# Altium footprint library QFN65P500X500X100-21N.PcbLib: 1 footprints
Each footprint in its own frame and in the unit in brackets; x right, y up, seen from the top. Pads: shape width x height; smd on the part's side, far side on the other; paste and mask are expansions set on the pad; w line width, h text height; cw(c..) or ccw(c..) is an arc to the next point about the centre after c.
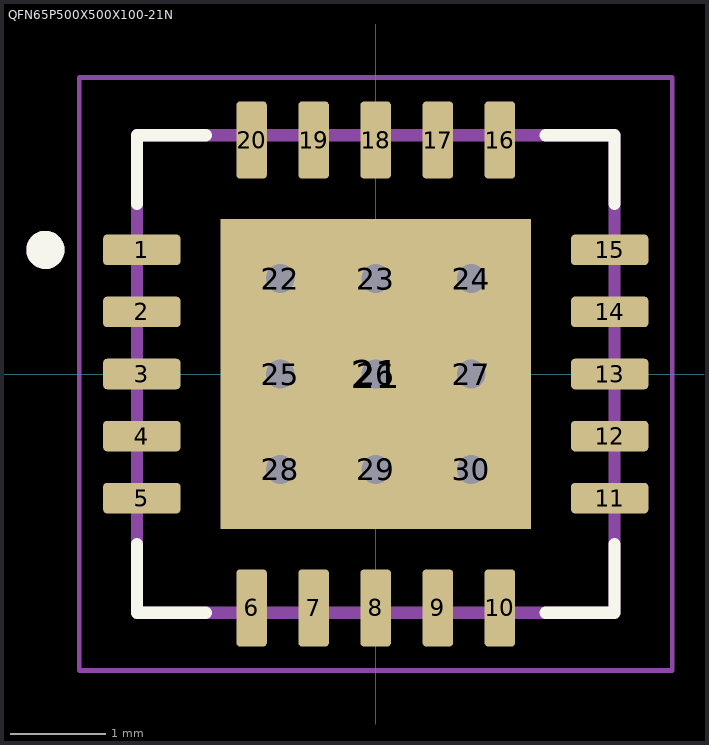
[diagram p0: the footprint, top view; thin cyan lines are the x and y axes]

## QFN65P500X500X100-21N [mm]
pads (30):
  rrect25% 0.81x0.32 smd: 1(-2.45,1.3) 2(-2.45,0.65) 3(-2.45,0) 4(-2.45,-0.65) 5(-2.45,-1.3) 11(2.45,-1.3) 12(2.45,-0.65) 13(2.45,0) 14(2.45,0.65) 15(2.45,1.3)
  rrect25% 0.32x0.81 smd: 6(-1.3,-2.45) 7(-0.65,-2.45) 8(0,-2.45) 9(0.65,-2.45) 10(1.3,-2.45) 16(1.3,2.45) 17(0.65,2.45) 18(0,2.45) 19(-0.65,2.45) 20(-1.3,2.45)
  rect 3.25x3.25 smd paste-3: 21(0,0)
  round 0.5 hole 0.3: 22(-1,1) 23(0,1) 24(1,1) 25(-1,0) 26(0,0) 27(1,0) 28(-1,-1) 29(0,-1) 30(1,-1)
Top Overlay:
  circle w0.2: c-3.46,1.3 r0.1
  lines w0.127: -2.5,-1.78 -2.5,-2.5 -1.78,-2.5 ; -2.5,1.78 -2.5,2.5 -1.78,2.5 ; 1.78,-2.5 2.5,-2.5 2.5,-1.78 ; 1.78,2.5 2.5,2.5 2.5,1.78
Top Paste:
  region: 1.15,-1.15 -1.15,-1.15 -1.15,1.15 1.15,1.15
Mechanical 13:
  circle w0.2: c-3.46,1.3 r0.1
  lines w0.127: -2.5,-2.5 2.5,-2.5 2.5,2.5 -2.5,2.5 -2.5,-2.5
Mechanical 15:
  lines w0.05: -3.105,-3.105 3.105,-3.105 3.105,3.105 -3.105,3.105 -3.105,-3.105